# EAGLE library part SN74HC161 (library bschulz)
SN74HC161 - 4-Bit Synchronous Binary Counter with Load Characteristics: VCC: 2 ~ 6V Operating Temperature: -40°C to 85°C Digikey: 296-14837-1-ND (SOIC) <https://www.digikey.com/en/products/detail/texas-instruments/SN74HC161DR/562878>
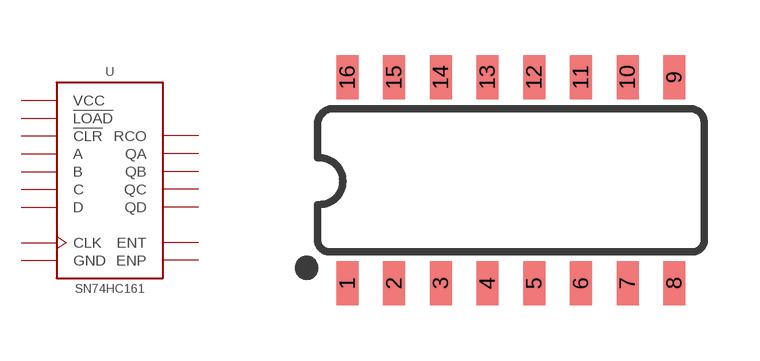
[diagram p183: symbol with the pads of SO16; footprint SO16]

Designator prefix U

## SN74HC161D (DIGIKEY: 296-14837-1-ND; MF: TI; MPN: SN74HC161DR)  [SO16]
1  !CLR  in
2  CLK  in
3  A  in
4  B  in
5  C  in
6  D  in
7  ENP  in
8  GND  pwr
9  !LOAD  in
10  ENT  in
11  QD  out
12  QC  out
13  QB  out
14  QA  out
15  RCO  in
16  VCC  pwr

## Footprint SO16 (pad centres in mm)
SOIC, 0.15 inch width
smd 0.6 x 1.2: 1 -4.445,-2.8; 2 -3.175,-2.8; 3 -1.905,-2.8; 4 -0.635,-2.8; 5 0.635,-2.8; 6 1.905,-2.8; 7 3.175,-2.8; 8 4.445,-2.8; 9 4.445,2.8; 10 3.175,2.8; 11 1.905,2.8; 12 0.635,2.8; 13 -0.635,2.8; 14 -1.905,2.8; 15 -3.175,2.8; 16 -4.445,2.8